# Altium footprint library 基础连接件.PcbLib: 7 footprints
Each footprint in its own frame and in the unit in brackets; x right, y up, seen from the top. Pads: shape width x height; smd on the part's side, far side on the other; paste and mask are expansions set on the pad; w line width, h text height; cw(c..) or ccw(c..) is an arc to the next point about the centre after c.
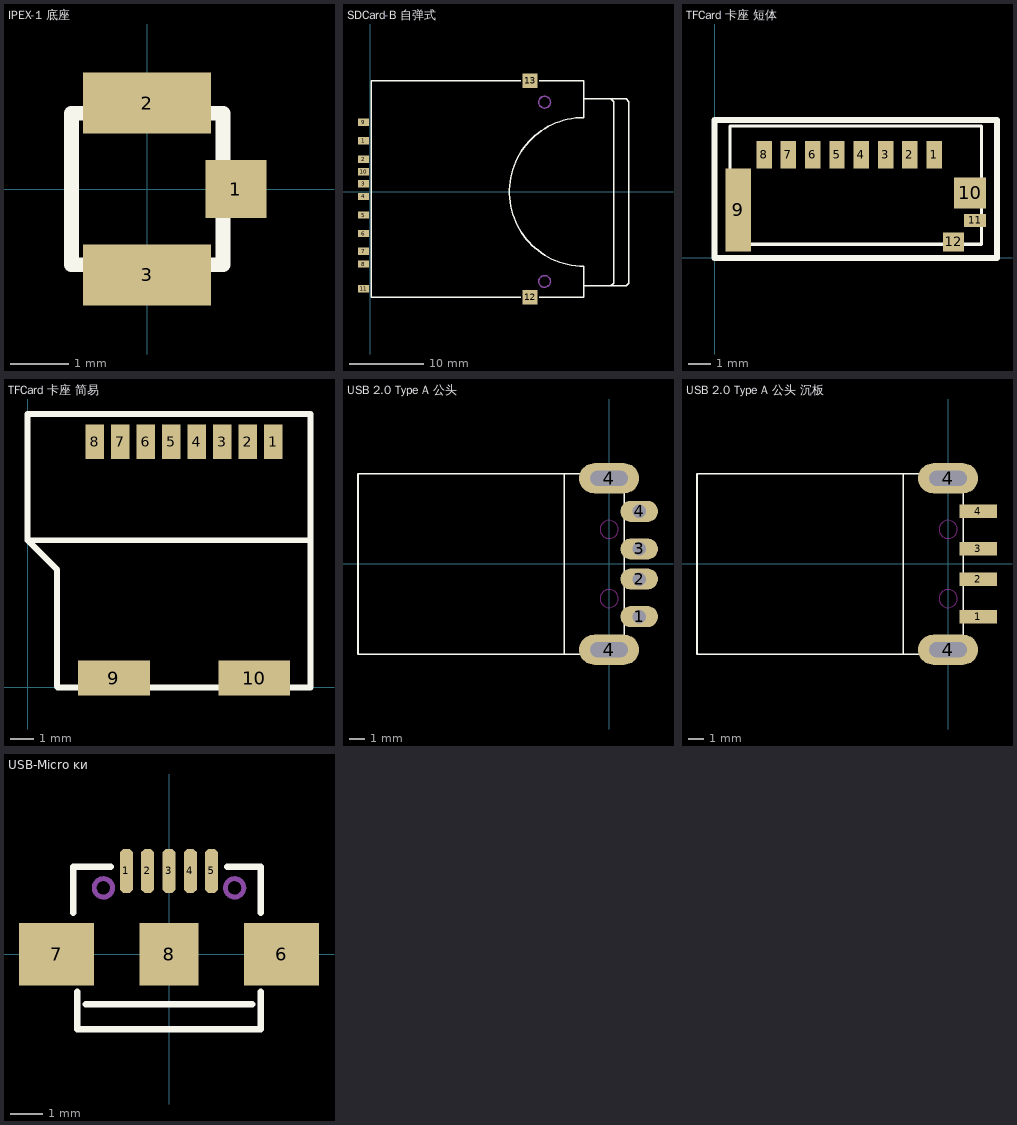
[diagram p0: the footprints below, top view; thin cyan lines are the x and y axes]

## IPEX-1 底座 [mm] "IPEX-1 底座 2.6mm×2.6mm"
height 1.25
pads (3):
  rect 1.05x1 smd: 1(1.525,0)
  rect 2.2x1.05 smd: 2(0,1.475) 3(0,-1.475)
Top Overlay:
  lines w0.254: -1.3,-1.3 1.3,-1.3 1.3,1.3 -1.3,1.3 -1.3,-1.3

## SDCard-B 自弹式 [mm] "SDCard-B 自弹式"
height 1.5
pads (13):
  rect 1.5x1 smd: 1(-0.889,6.88) 2(-0.889,4.38) 3(-0.889,1.08) 4(-0.889,-0.63) 5(-0.889,-3.13) 6(-0.889,-5.63) 7(-0.889,-8.05) 8(-0.889,-9.75) 9(-0.889,9.38) 10(-0.889,2.73) 11(-0.889,-13.1)
  rect 2x2 smd: 12(21.59,-14.224) 13(21.59,14.986)
Top Overlay:
  lines w0.2: 20.32,-14.224 0.127,-14.224 0.127,0 0.127,14.986 20.32,14.986 ; 22.86,-14.224 28.829,-14.224 28.829,-10.033 cw(c28.829,0) 28.829,10.033 28.829,14.986 22.86,14.986 ; 28.829,-12.7 32.893,-12.7 34.544,-12.7 34.925,-12.319 34.925,12.192 34.544,12.573 32.893,12.573 28.829,12.573 ; 32.512,-12.7 32.893,-12.319 32.893,12.192 32.512,12.573
Mechanical 1:
  circle w0.2: c23.55,12.1 r0.8
  circle w0.2: c23.55,-12.1 r0.8

## TFCard 卡座 短体 [mm] "TFCard 卡座 8Pin 短体"
height 3.5
pads (12):
  rect 0.7x1.25 smd: 1(9.95,4.675) 2(8.85,4.675) 3(7.75,4.675) 4(6.65,4.675) 5(5.55,4.675) 6(4.45,4.675) 7(3.35,4.675) 8(2.25,4.675)
  rect 1.15x3.75 smd: 9(1.08,2.175)
  rect 1.45x1.4 smd: 10(11.585,2.95)
  rect 1x0.6 smd: 11(11.81,1.7)
  rect 0.95x0.85 smd: 12(10.835,0.725)
Top Overlay:
  lines w0.152: 0.7,0.625 0.7,5.98 12.1,5.98 12.1,0.625 0.7,0.625
  lines w0.254: 0,0 0,6.25 12.8,6.25 12.8,0 0,0

## TFCard 卡座 简易 [mm] "TFCard 卡座 8Pin 简易 全塑 12.20mm×11.80mm"
height 1.9
pads (10):
  rect 0.8x1.5 smd: 1(10.6,10.6) 2(9.5,10.6) 3(8.4,10.6) 4(7.3,10.6) 5(6.2,10.6) 6(5.1,10.6) 7(4,10.6) 8(2.9,10.6)
  rect 3.1x1.5 smd: 9(3.72,0.4) 10(9.78,0.4)
Top Overlay:
  lines w0.254: 1.27,0.03 1.27,5.08 0,6.35 ; 1.3,0 12.2,0 12.2,11.8 0,11.8 0,6.35 ; 12.2,6.35 0,6.35

## USB 2.0 Type A 公头 [mm] "直插 USB 2.0 Type A 公头 6Pin"
pads (7):
  oval 1.5x1.4 on Bottom Overlay: 1(-1.27,3.683)
  oval 2.5x1.4 hole 0.9: 1(2,-3.5) 2(2,-1) 3(2,1) 4(2,3.5)
  oval 4x2 hole 1 slot 2.5 at 0 deg: 4(0,-5.7) 4(0,5.7)
Top Overlay:
  lines w0.1: -3,-6 -3,6 ; -16.7,-6 -16.7,6 1,6 1,-6 -16.7,-6
Bottom Overlay:
  lines w0.1: -1.951,-3.383 -0.589,-3.383 ; -1.878,-3.456 -1.878,-3.302 ; -1.851,-3.483 -0.689,-3.483 ; -1.778,-3.556 -1.778,-3.302 ; -1.751,-3.583 -0.789,-3.583 ; -1.678,-3.656 -1.678,-3.302 ; -1.651,-3.683 -0.889,-3.683 ; -1.578,-3.756 -1.578,-3.302 ; -1.551,-3.783 -0.989,-3.783 ; -1.478,-3.856 -1.478,-3.302 ; -1.451,-3.883 -1.089,-3.883 ; -1.378,-3.956 -1.378,-3.302 ; -1.351,-3.983 -1.189,-3.983 ; -1.278,-4.056 -1.278,-3.302 ; -1.178,-3.972 -1.178,-3.302 ; -1.078,-3.872 -1.078,-3.302 ; -0.978,-3.772 -0.978,-3.302 ; -0.878,-3.672 -0.878,-3.302 ; -0.778,-3.572 -0.778,-3.302 ; -0.678,-3.472 -0.678,-3.302 ; -2.032,-3.302 -1.905,-3.429 -1.27,-4.064 -0.508,-3.302 -1.27,-3.302 -2.032,-3.302
  lines w0.3: -1.8,-0.149 -1.629,0.022 ; -1.016,1.27 -0.718,0.972
  lines w0.5: -2.159,-1.016 cw(c-0.933,-1.016) -1.8,-0.149 ; -1.629,0.022 ccw(c-2.496,0.889) -1.27,0.889 ; -1.624,3.329 cw(c-2.477,2.476) -1.27,2.476 cw(c-0.063,2.476) -0.916,3.329 ; -1.285,1.92 ccw(c-0.366,1.92) -1.016,1.27 ; -1.27,-3.302 -1.27,3.683 ; -0.718,0.972 cw(c-1.802,-0.112) -0.269,-0.112
Keep-Out Layer:
  circle w0.05: c0,2.3 r0.6
  circle w0.05: c0,-2.3 r0.6

## USB 2.0 Type A 公头 沉板 [mm] "贴片 USB 2.0 Type A 公头 沉板 6Pin"
height 2.25
pads (7):
  oval 1.5x1.4 on Bottom Overlay: 1(-1.27,3.683)
  rect 2.5x0.9 smd: 1(2,-3.5) 2(2,-1) 3(2,1) 4(2,3.5)
  oval 4x2 hole 1 slot 2.5 at 0 deg: 4(0,-5.7) 4(0,5.7)
Top Overlay:
  lines w0.1: -3,-6 -3,6 ; -16.7,-6 -16.7,6 1,6 1,-6 -16.7,-6
Bottom Overlay:
  lines w0.1: -1.951,-3.383 -0.589,-3.383 ; -1.878,-3.456 -1.878,-3.302 ; -1.851,-3.483 -0.689,-3.483 ; -1.778,-3.556 -1.778,-3.302 ; -1.751,-3.583 -0.789,-3.583 ; -1.678,-3.656 -1.678,-3.302 ; -1.651,-3.683 -0.889,-3.683 ; -1.578,-3.756 -1.578,-3.302 ; -1.551,-3.783 -0.989,-3.783 ; -1.478,-3.856 -1.478,-3.302 ; -1.451,-3.883 -1.089,-3.883 ; -1.378,-3.956 -1.378,-3.302 ; -1.351,-3.983 -1.189,-3.983 ; -1.278,-4.056 -1.278,-3.302 ; -1.178,-3.972 -1.178,-3.302 ; -1.078,-3.872 -1.078,-3.302 ; -0.978,-3.772 -0.978,-3.302 ; -0.878,-3.672 -0.878,-3.302 ; -0.778,-3.572 -0.778,-3.302 ; -0.678,-3.472 -0.678,-3.302 ; -2.032,-3.302 -1.905,-3.429 -1.27,-4.064 -0.508,-3.302 -1.27,-3.302 -2.032,-3.302
  lines w0.3: -1.8,-0.149 -1.629,0.022 ; -1.016,1.27 -0.718,0.972
  lines w0.5: -2.159,-1.016 cw(c-0.933,-1.016) -1.8,-0.149 ; -1.629,0.022 ccw(c-2.496,0.889) -1.27,0.889 ; -1.624,3.329 cw(c-2.477,2.476) -1.27,2.476 cw(c-0.063,2.476) -0.916,3.329 ; -1.285,1.92 ccw(c-0.366,1.92) -1.016,1.27 ; -1.27,-3.302 -1.27,3.683 ; -0.718,0.972 cw(c-1.802,-0.112) -0.269,-0.112
Keep-Out Layer:
  circle w0.05: c0,2.3 r0.6
  circle w0.05: c0,-2.3 r0.6

## USB-Micro ĸͷ [mm] "贴片 Micro USB 母头 8Pin"
pads (8):
  oct 0.4x1.35 smd: 1(-1.3,2.54) 2(-0.65,2.54) 3(0,2.54) 4(0.65,2.54) 5(1.3,2.54)
  rect 2.286x1.9 smd: 6(3.429,0) 7(-3.429,0)
  rect 1.8x1.9 smd: 8(0,0)
Top Overlay:
  lines w0.2: -2.921,1.27 -2.921,2.667 -1.778,2.667 ; -2.794,-1.143 -2.794,-2.286 2.794,-2.286 2.794,-1.143 ; -2.54,-1.524 2.54,-1.524 ; 1.778,2.667 2.794,2.667 2.794,1.27
Mechanical 1:
  circle w0.15: c-2,2.023 r0.28
  circle w0.15: c2,2.023 r0.28